# EAGLE library part 613026216921 (library Wuerth_Elektronik_eiCan_Pin_&_Socked_Headers_v1.3)
WR-PHD 2.54mm Dual S. Header Bottom Entry Large, 26 Pins
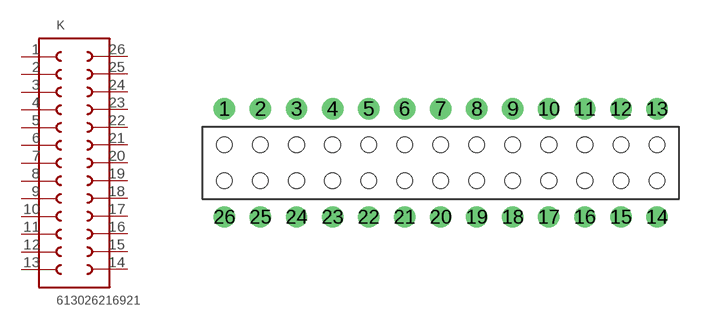
[diagram p212: symbol with the pads of 613026216921; footprint 613026216921]

Designator prefix K

## 613026216921  [613026216921]
1  1  pas
2  2  pas
3  3  pas
4  4  pas
5  5  pas
6  6  pas
7  7  pas
8  8  pas
9  9  pas
10  10  pas
11  11  pas
12  12  pas
13  13  pas
14  14  pas
15  15  pas
16  16  pas
17  17  pas
18  18  pas
19  19  pas
20  20  pas
21  21  pas
22  22  pas
23  23  pas
24  24  pas
25  25  pas
26  26  pas

## Footprint 613026216921 (pad centres in mm)
WR-PHD 2.54mm Dual S. Header Bottom Entry Large, 26 Pins
drill 1 round: 1 -15.24,3.81; 2 -12.7,3.81; 3 -10.16,3.81; 4 -7.62,3.81; 5 -5.08,3.81; 6 -2.54,3.81; 7 0,3.81; 8 2.54,3.81; 9 5.08,3.81; 10 7.62,3.81; 11 10.16,3.81; 12 12.7,3.81; 13 15.24,3.81; 14 15.24,-3.81; 15 12.7,-3.81; 16 10.16,-3.81; 17 7.62,-3.81; 18 5.08,-3.81; 19 2.54,-3.81; 20 0,-3.81; 21 -2.54,-3.81; 22 -5.08,-3.81; 23 -7.62,-3.81; 24 -10.16,-3.81; 25 -12.7,-3.81; 26 -15.24,-3.81
hole 1.1 at -15.24,1.27
hole 1.1 at -12.7,1.27
hole 1.1 at -10.16,1.27
hole 1.1 at -7.62,1.27
hole 1.1 at -5.08,1.27
hole 1.1 at -2.54,1.27
hole 1.1 at 0,1.27
hole 1.1 at 2.54,1.27
hole 1.1 at 5.08,1.27
hole 1.1 at 7.62,1.27
hole 1.1 at 7.62,-1.27
hole 1.1 at 5.08,-1.27
hole 1.1 at 2.54,-1.27
hole 1.1 at 0,-1.27
hole 1.1 at -2.54,-1.27
hole 1.1 at -5.08,-1.27
hole 1.1 at -7.62,-1.27
hole 1.1 at -10.16,-1.27
hole 1.1 at -12.7,-1.27
hole 1.1 at -15.24,-1.27
hole 1.1 at 10.16,1.27
hole 1.1 at 10.16,-1.27
hole 1.1 at 12.7,1.27
hole 1.1 at 12.7,-1.27
hole 1.1 at 15.24,1.27
hole 1.1 at 15.24,-1.27